# EAGLE library part CTCON6 (library custom-2002)
Conector acodado de 6 con la asignación de pines de la CT6811
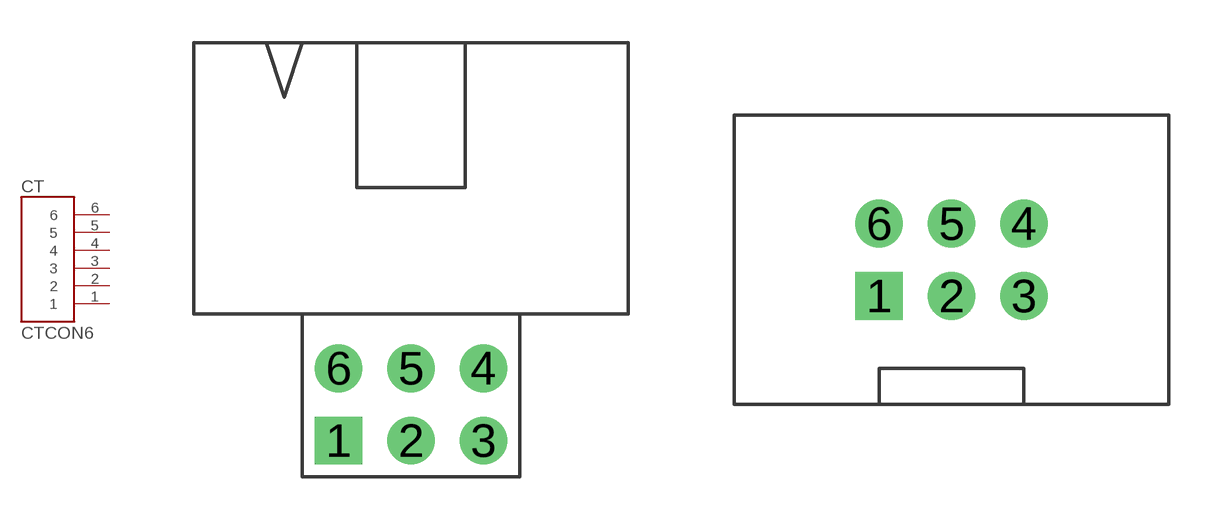
[diagram p2: symbol with the pads of CON6; footprints CON6, CON6C]

Designator prefix CT

## CTCON6A  [CON6]
1  1  pas
2  2  pas
3  3  pas
4  4  pas
5  5  pas
6  6  pas

## CTCON6R  [CON6C]
Pads as for CON6

## Footprint CON6 (pad centres in mm)
Conector 6 contactos (mil - 40)
drill 1.016 pad 1.676 square: 1 0,0
drill 1.016 pad 1.676 round: 2 2.54,0; 3 5.08,0; 4 5.08,2.54; 5 2.54,2.54; 6 0,2.54

## Footprint CON6C (pad centres in mm)
Conector recto de 6 contactos tipo CT
drill 1.016 pad 1.676 square: 1 0,0
drill 1.016 pad 1.676 round: 2 2.54,0; 3 5.08,0; 4 5.08,2.54; 5 2.54,2.54; 6 0,2.54